# EAGLE library part MCP4921-E/P (library voicemod_parts)
DAC
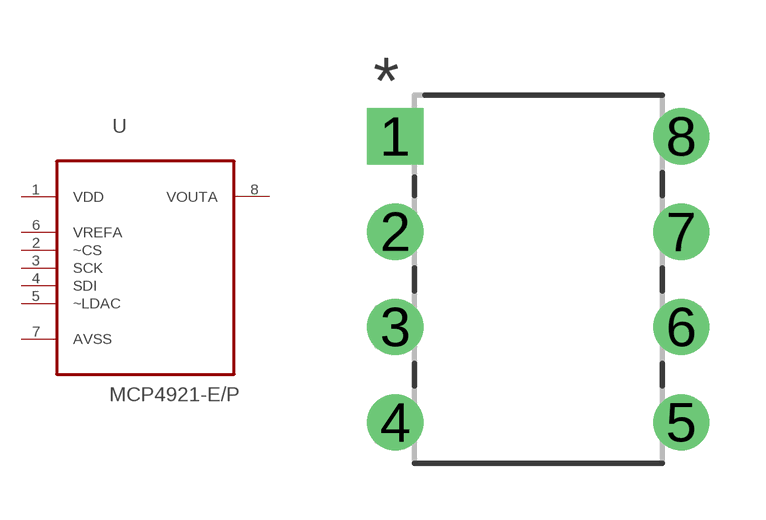
[diagram p2: symbol with the pads of DIP254P762X432-8; footprint DIP254P762X432-8]

Designator prefix -

## MCP4921-E/P (MPN: MCP4921-E/P; OC_FARNELL: 1332112; OC_NEWARK: 08J8743; PACKAGE: DIP-8; SUPPLIER: Microchip)  [DIP254P762X432-8]
1  VDD  pwr
2  ~CS  in
3  SCK  in
4  SDI  in
5  ~LDAC  in
6  VREFA  in
7  AVSS  pas
8  VOUTA  out

## Footprint DIP254P762X432-8 (pad centres in mm)
drill 0.991 square: 1 -7.62,7.62
drill 0.991: 2 -7.62,5.08; 3 -7.62,2.54; 4 -7.62,0; 5 0,0; 6 0,2.54; 7 0,5.08; 8 0,7.62